# Altium footprint library 集成接线头.PcbLib: 105 footprints (part 5 of 7)
Each footprint in its own frame and in the unit in brackets; x right, y up, seen from the top. Pads: shape width x height; smd on the part's side, far side on the other; paste and mask are expansions set on the pad; w line width, h text height; cw(c..) or ccw(c..) is an arc to the next point about the centre after c.
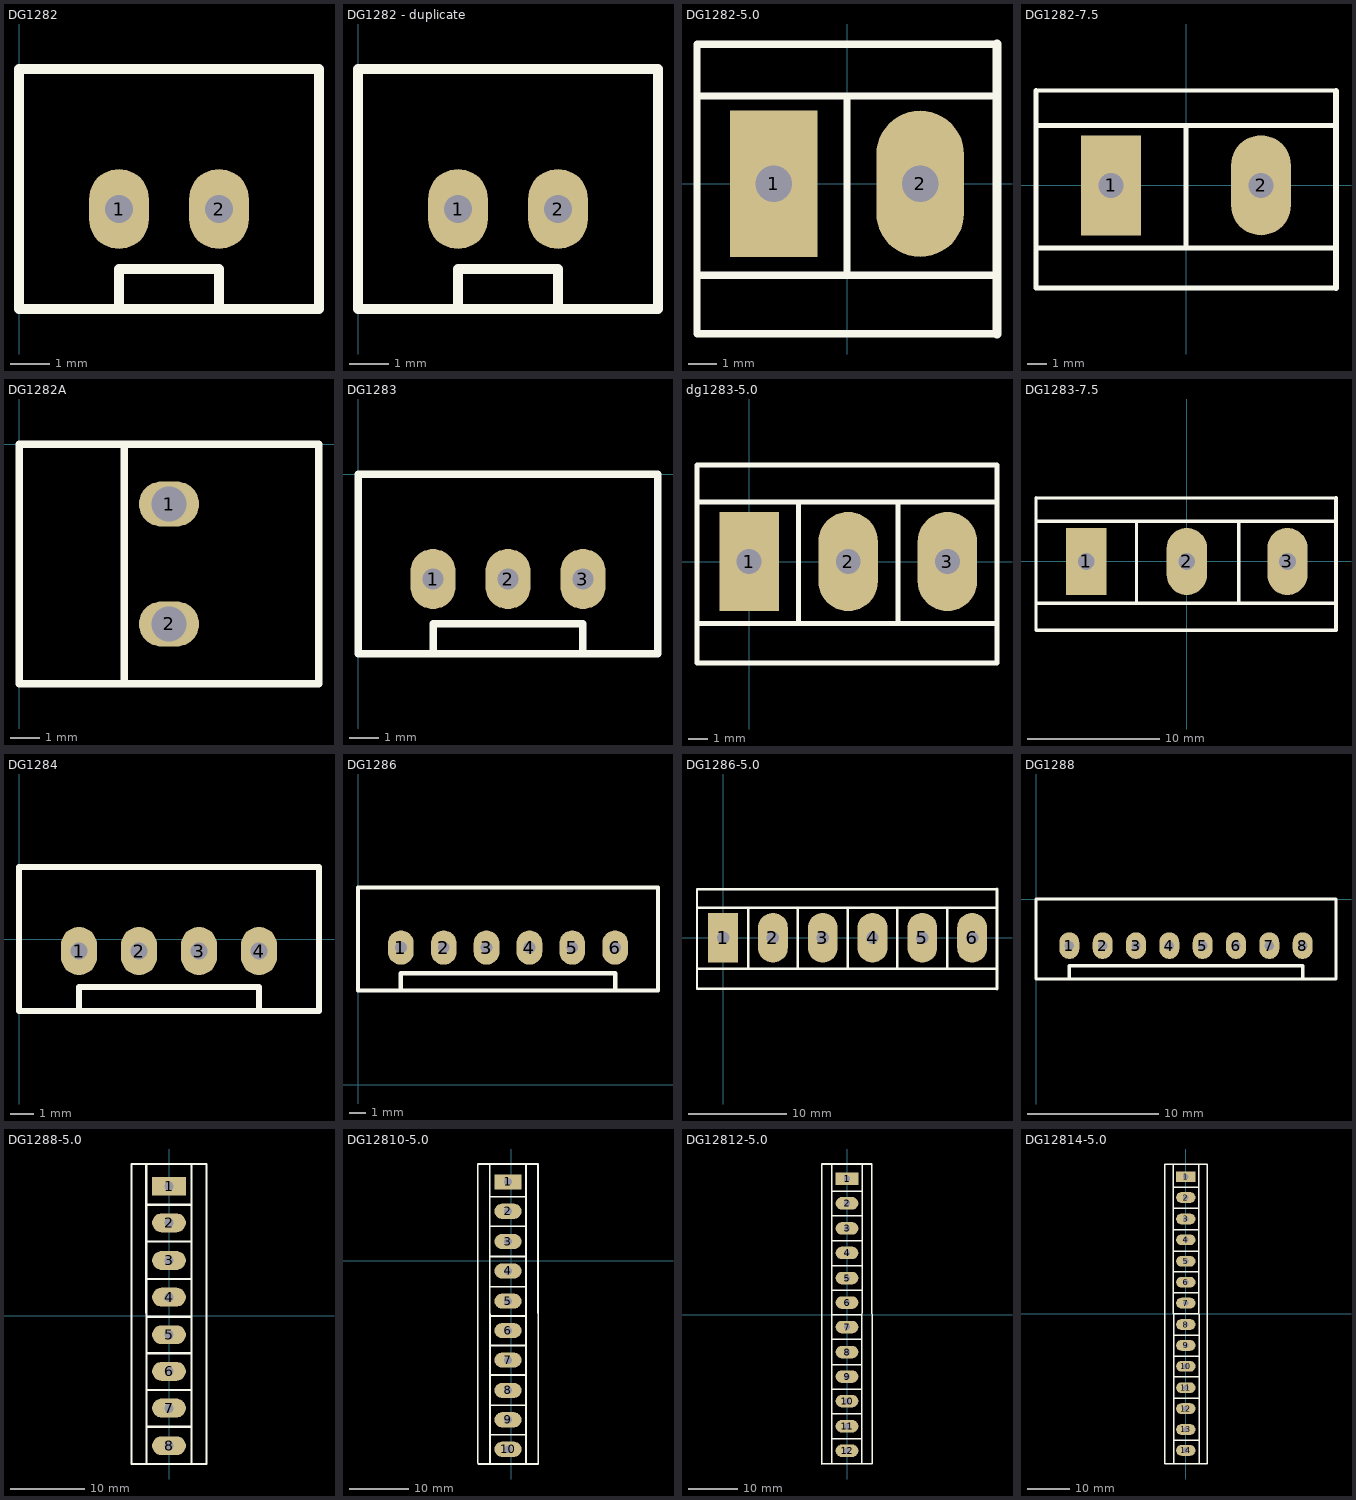
[diagram p4: the footprints below, top view; thin cyan lines are the x and y axes]

## DG1282 [mil]
pads (2):
  oval 60x80 hole 27.56: 1(100,360) 2(200,360)
Top Overlay:
  lines w10: 100,260 100,300 200,300 200,280 200,260 ; 0,260 0,380 0,500 300,500 300,260 0,260

## DG1282 - duplicate [mil]
pads (2):
  oval 60x80 hole 27.56: 1(100,360) 2(200,360)
Top Overlay:
  lines w10: 100,260 100,300 200,300 200,280 200,260 ; 0,260 0,380 0,500 300,500 300,260 0,260

## DG1282-5.0 [mil]
pads (2):
  rect 120x200 hole 50: 1(-100,0)
  oval 120x200 hole 50: 2(100,0)
Top Overlay:
  lines w10: -205,-203 -205,-205 205,-205 ; -205,-200 -205,191 205,191 ; -205,-125 205,-125 ; -205,120 205,120 ; 0,-124 0,120
  lines w12: 205,-205 205,191

## DG1282-7.5 [mil]
pads (2):
  rect 120x200 hole 50: 1(-150,0)
  oval 120x200 hole 50: 2(150,0)
Top Overlay:
  lines w10: -300,-125 300,-125 ; -300,120 300,120 ; -300,186 -300,-205 300,-205 ; -300,190 300,189 ; 0,-124 0,120
  lines w12: 300,-205 300,189

## DG1282A [mil]
pads (2):
  oval 80x60 hole 47.24: 1(200,-80) 2(200,-240)
Top Overlay:
  lines w10: 140,-320 140,0 ; 0,-320 240,-320 260,-320 280,-320 360,-320 400,-320 400,0 360,0 280,0 260,0 240,0 0,0 0,-20 0,-320

## DG1283 [mil]
pads (3):
  oval 60x80 hole 27.56: 1(100,-140) 2(200,-140) 3(300,-140)
Top Overlay:
  lines w10: 100,-240 100,-200 300,-200 300,-240 ; 0,-240 0,-120 0,0 400,0 400,-240 0,-240

## dg1283-5.0 [mil]
pads (3):
  rect 120x200 hole 50: 1(0,0)
  oval 120x200 hole 50: 2(200,0) 3(400,0)
Top Overlay:
  lines w10: -105,-203 -105,-205 500,-205 500,195 -105,195 ; -105,-200 -105,191 ; -105,-125 500,-125 ; -105,120 500,120 ; 100,-124 100,120 ; 300,-125 300,120

## DG1283-7.5 [mil]
pads (3):
  rect 120x200 hole 50: 1(-300,0)
  oval 120x200 hole 50: 2(0,0) 3(300,0)
Top Overlay:
  lines w10: -450,-125 445,-125 ; -450,120 445,120 ; -450,186 -450,-205 445,-205 ; -450,190 445,189 ; -150,-124 -150,120 ; 155,-125 155,120
  lines w12: 445,-205 445,189

## DG1284 [mil]
pads (4):
  oval 60x80 hole 27.56: 1(100,-20) 2(200,-20) 3(300,-20) 4(400,-20)
Top Overlay:
  lines w10: 100,-120 100,-80 400,-80 400,-120 ; 0,-120 0,0 0,120 500,120 500,-120 480,-120 0,-120

## DG1286 [mil]
pads (6):
  oval 60x80 hole 27.56: 1(100,320) 2(200,320) 3(300,320) 4(400,320) 5(500,320) 6(600,320)
Top Overlay:
  lines w10: 100,220 100,260 400,260 600,260 600,220 ; 0,220 0,340 0,460 500,460 700,460 700,220 500,220 480,220 0,220

## DG1286-5.0 [mil]
pads (6):
  rect 120x200 hole 50: 1(0,0)
  oval 120x200 hole 50: 2(200,0) 3(400,0) 4(600,0) 5(800,0) 6(1000,0)
Top Overlay:
  lines w10: -105,-203 -105,-205 1100,-205 ; -105,-200 -105,191 ; -105,-125 1100,-125 ; -105,120 1100,120 ; -105,195 1095,195 ; 100,-124 100,120 ; 300,-125 300,120 ; 500,-125 500,120 ; 700,-125 700,120 ; 900,-125 900,120
  lines w12: 1100,-205 1100,195

## DG1288 [mil]
pads (8):
  oval 60x80 hole 27.56: 1(100,-140) 2(200,-140) 3(300,-140) 4(400,-140) 5(500,-140) 6(600,-140) 7(700,-140) 8(800,-140)
Top Overlay:
  lines w10: 100,-240 100,-200 400,-200 600,-200 800,-200 800,-240 ; 0,-240 480,-240 500,-240 700,-240 900,-240 900,0 700,0 500,0 0,0 0,-120 0,-240

## DG1288-5.0 [mil]
pads (8):
  rect 180x100 hole 50: 1(0,690)
  oval 180x100 hole 50: 2(0,495) 3(0,295) 4(0,100) 5(0,-100) 6(0,-295) 7(0,-490) 8(0,-690)
Top Overlay:
  lines w12: -121,808 -120,-782.5 ; -117,591 118,591 ; -112,-589 118,-589 ; -112,-394 118,-394 ; -112,-199 118,-199 ; -112,-4 118,-4 ; -112,196 118,196 ; -112,396 118,396 ; 120,-787.5 120,808 ; 199,-787.5 -200,-787.5 -200,808 199,808 200,-787.5

## DG12810-5.0 [mil]
pads (10):
  rect 180x100 hole 50: 1(-20,522.5)
  oval 180x100 hole 50: 2(-20,327.5) 3(-20,127.5) 4(-20,-67.5) 5(-20,-267.5) 6(-20,-462.5) 7(-20,-657.5) 8(-20,-857.5) 9(-20,-1052.5) 10(-20,-1247.5)
Top Overlay:
  lines w12: -220,-1340 -220,640.5 179,640.5 180,-1340 ; -215,-1345 179,-1345 ; -141,640.5 -140,-1340 ; -137,423.5 98,423.5 ; -132,-1151.5 98,-1151.5 ; -132,-956.5 98,-956.5 ; -132,-756.5 98,-756.5 ; -132,-561.5 98,-561.5 ; -132,-366.5 98,-366.5 ; -132,-171.5 98,-171.5 ; -132,28.5 98,28.5 ; -132,228.5 98,228.5 ; 100,-1340 100,640.5

## DG12812-5.0 [mil]
pads (12):
  rect 180x100 hole 50: 1(0,1082.5)
  oval 180x100 hole 50: 2(0,887.5) 3(0,687.5) 4(0,492.5) 5(0,292.5) 6(0,97.5) 7(0,-97.5) 8(0,-297.5) 9(0,-492.5) 10(0,-687.5) 11(0,-887.5) 12(0,-1082.5)
Top Overlay:
  lines w12: -200,-1188 -200,1200.5 199,1200.5 200,-1185 ; -195,-1185 199,-1185 ; -123,-1185 -121,1200.5 ; -117,983.5 118,983.5 ; -112,-986.5 118,-986.5 ; -112,-786.5 118,-786.5 ; -112,-591.5 118,-591.5 ; -112,-396.5 118,-396.5 ; -112,-196.5 118,-196.5 ; -112,-1.5 118,-1.5 ; -112,193.5 118,193.5 ; -112,388.5 118,388.5 ; -112,588.5 118,588.5 ; -112,788.5 118,788.5 ; 117,-1182 120,1200.5

## DG12814-5.0 [mil]
pads (14):
  rect 180x100 hole 50: 1(0,1277.5)
  oval 180x100 hole 50: 2(0,1082.5) 3(0,882.5) 4(0,687.5) 5(0,487.5) 6(0,292.5) 7(0,97.5) 8(0,-102.5) 9(0,-297.5) 10(0,-492.5) 11(0,-692.5) 12(0,-887.5) 13(0,-1082.5) 14(0,-1277.5)
Top Overlay:
  lines w12: -117,1178.5 118,1178.5 ; -116,1395.5 -111,-1404.5 ; -112,-1181.5 118,-1181.5 ; -112,-791.5 118,-791.5 ; -112,-591.5 118,-591.5 ; -112,-396.5 118,-396.5 ; -112,-201.5 118,-201.5 ; -112,-1.5 118,-1.5 ; -112,193.5 118,193.5 ; -112,388.5 118,388.5 ; -112,583.5 118,583.5 ; -112,783.5 118,783.5 ; -112,983.5 118,983.5 ; 120,1395.5 124,-1404.5 ; -195,-1404.5 -195,1395.5 199,1395.5 199,-1404.5 -195,-1404.5